# Altium footprint library gfl.PcbLib: 36 footprints (part 3 of 3)
Each footprint in its own frame and in the unit in brackets; x right, y up, seen from the top. Pads: shape width x height; smd on the part's side, far side on the other; paste and mask are expansions set on the pad; w line width, h text height; cw(c..) or ccw(c..) is an arc to the next point about the centre after c.
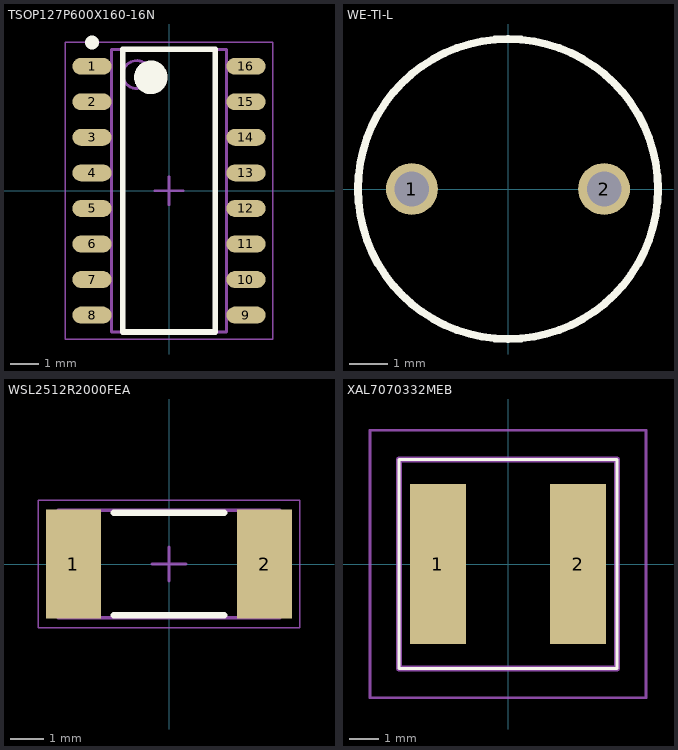
[diagram p2: the footprints below, top view; thin cyan lines are the x and y axes]

## TSOP127P600X160-16N [mm] "TSOP, 16-Leads, Body 9.90x3.90mm, Pitch 1.27mm, IPC Medium Density"
height 1.6
pads (16):
  oval 1.4x0.6 smd: 1(-2.75,4.445) 2(-2.75,3.175) 3(-2.75,1.905) 4(-2.75,0.635) 5(-2.75,-0.635) 6(-2.75,-1.905) 7(-2.75,-3.175) 8(-2.75,-4.445) 9(2.75,-4.445) 10(2.75,-3.175) 11(2.75,-1.905) 12(2.75,-0.635) 13(2.75,0.635) 14(2.75,1.905) 15(2.75,3.175) 16(2.75,4.445)
Top Overlay:
  circle w0.25: c-2.75,5.295 r0.125
  circle w0.6: c-0.65,4.05 r0.3
  lines w0.2: -1.65,-5.05 -1.65,5.05 1.65,5.05 1.65,-5.05 -1.65,-5.05
Top Courtyard:
  lines w0.05: -3.7,-5.3 -3.7,5.3 3.7,5.3 3.7,-5.3 -3.7,-5.3
  lines w0.1: -0.5,0 0.5,0 ; 0,-0.5 0,0.5
Top Assembly:
  circle w0.1: c-1.15,4.15 r0.5
  lines w0.1: -2.05,-5.05 -2.05,5.05 2.05,5.05 2.05,-5.05 -2.05,-5.05
3D body "TSOP127P600X160-16N.step": height 1.6, standoff 0, extent -3,-5.05 3,5.05

## WE-TI-L [mm] "THT Inductor, 2-Leads, Body 7.8 x 7.8 mm"
height 10
pads (2):
  round 1.35 hole 0.9: 1(-2.5,0) 2(2.5,0)
Top Overlay:
  circle w0.2: c0,0 r3.9
Mechanical 1:
  circle w0.1: c0,0 r3.9
3D body "744772471.stp": height 9.5, standoff -5, extent -3.9,-3.9 3.886,3.895

## WSL2512R2000FEA [mm]
height 0.89
pads (2):
  rect 1.65x3.25 smd: 1(-2.85,0) 2(2.85,0)
Top Overlay:
  lines w0.2: -1.65,-1.525 1.65,-1.525 ; -1.65,1.525 1.65,1.525
Top Courtyard:
  lines w0.05: -3.9,-1.9 3.9,-1.9 3.9,1.9 -3.9,1.9 -3.9,-1.9
  lines w0.1: -0.5,0 0.5,0 ; 0,-0.5 0,0.5
Top Assembly:
  lines w0.1: -3.3,-1.6 3.3,-1.6 3.3,1.6 -3.3,1.6 -3.3,-1.6
3D body "WSL2512R2000FEA.stp": height 0.64, standoff 0, extent -3.175,-1.59 3.175,1.59

## XAL7070332MEB [mm]
pads (2):
  rect 1.92x5.5 smd: 1(-2.41,0) 2(2.41,0)
Top Overlay:
  lines w0.1: -3.75,-3.6 -3.75,3.6 3.75,3.6 3.75,-3.6 -3.75,-3.6
Mechanical 13:
  lines w0.2: -3.75,-3.6 -3.75,3.6 3.75,3.6 3.75,-3.6 -3.75,-3.6
Mechanical 15:
  lines w0.1: -4.75,-4.6 -4.75,4.6 4.75,4.6 4.75,-4.6 -4.75,-4.6
3D body "XAL7070-222MEB.stp": height 7.1, standoff 0, extent -3.75,-3.6 3.75,3.6